# EAGLE library part TLE5205-2 (library RASEagleLib)
TLE5205-2 5-A H-Bridge for DC-Motor Applications
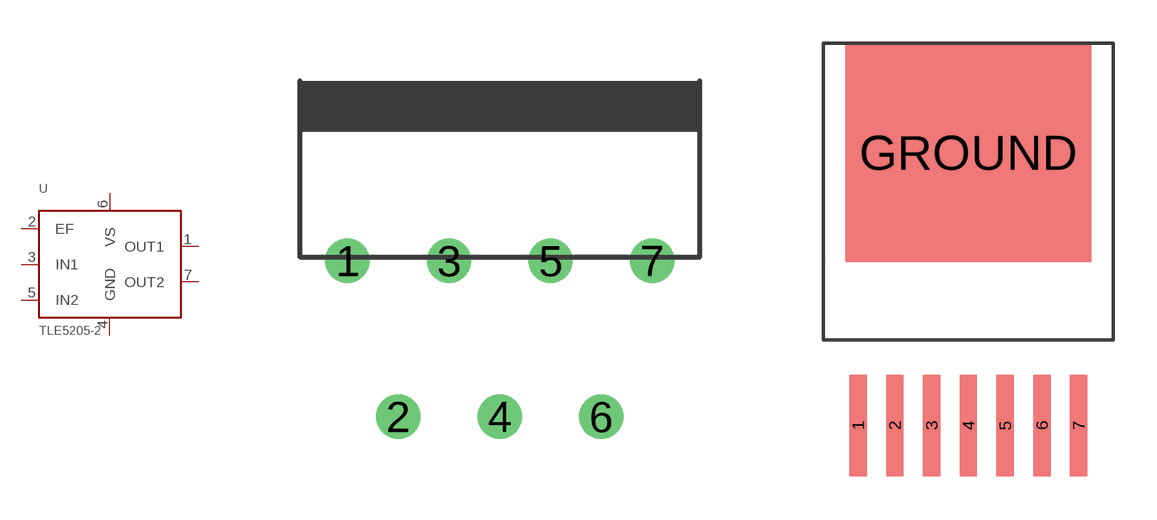
[diagram p3: symbol with the pads of TO-220-7-11; footprints TO-220-7-11, PG-TO263-7-1]

Designator prefix U

## TLE5205-2  [TO-220-7-11]
1  OUT1
2  EF
3  IN1
4  GND
5  IN2
6  VS
7  OUT2

## TLE5205-2.SMD  [PG-TO263-7-1]
1  OUT1
2  EF
3  IN1
4  GND
5  IN2
6  VS
7  OUT2
GROUND  GND

## Footprint TO-220-7-11 (pad centres in mm)
drill 0.6: 1 -3.81,3.9; 2 -2.54,0; 3 -1.27,3.9; 4 0,0; 5 1.27,3.9; 6 2.54,0; 7 3.81,3.9

## Footprint PG-TO263-7-1 (pad centres in mm)
smd 0.6 x 3.5: 1 -3.81,-2.95; 2 -2.54,-2.95; 3 -1.27,-2.95; 4 0,-2.95; 5 1.27,-2.95; 6 2.54,-2.95; 7 3.81,-2.95
smd 8.5 x 7.55: GROUND 0,6.475